# Altium footprint library Balance.PcbLib: 29 footprints (part 1 of 2)
Each footprint in its own frame and in the unit in brackets; x right, y up, seen from the top. Pads: shape width x height; smd on the part's side, far side on the other; paste and mask are expansions set on the pad; w line width, h text height; cw(c..) or ccw(c..) is an arc to the next point about the centre after c.
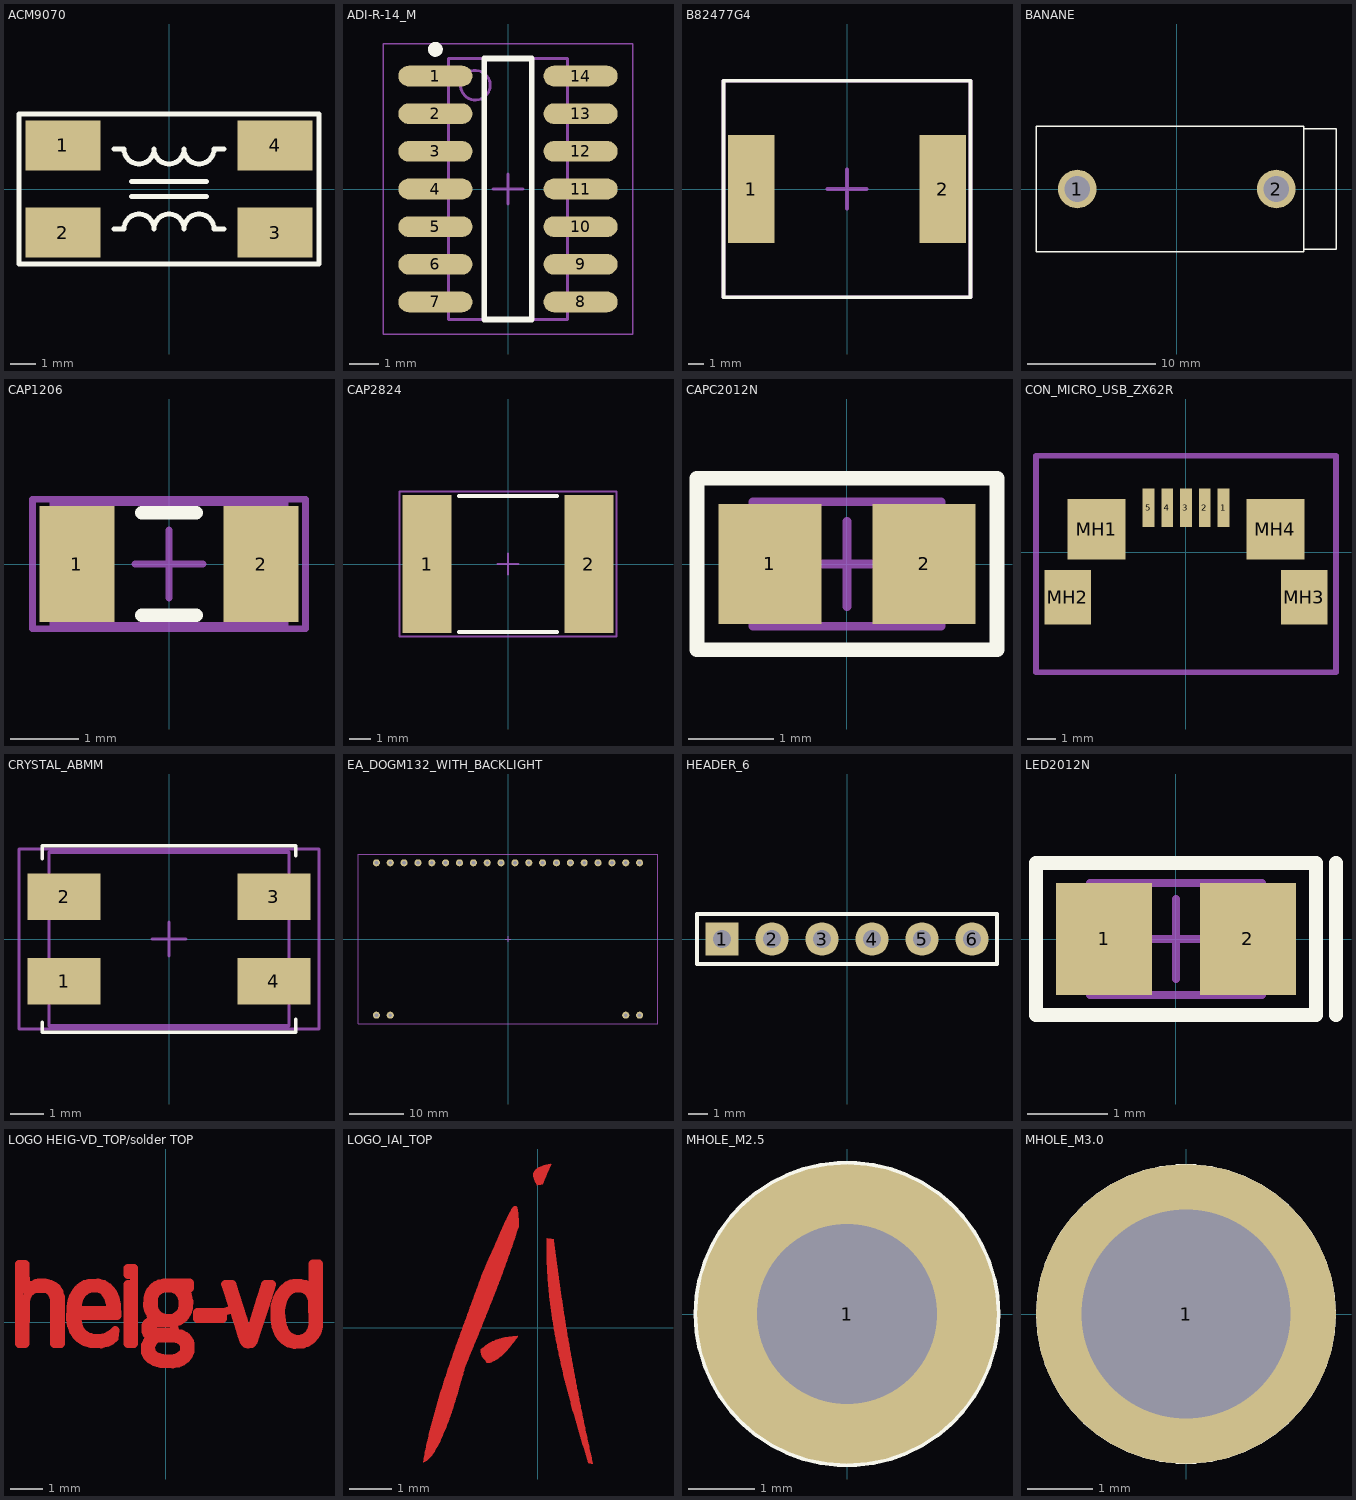
[diagram p0: the footprints below, top view; thin cyan lines are the x and y axes]

## ACM9070 [mm] "Common mode choke"
pads (4):
  rect 3x2 smd: 1(-4.25,1.75) 2(-4.25,-1.75) 3(4.25,-1.75) 4(4.25,1.75)
Top Overlay:
  lines w0.2: -2.2,-1.6 -1.8,-1.6 cw(c-1.2,-1.6) -0.6,-1.6 cw(c0,-1.6) 0.6,-1.6 cw(c1.2,-1.6) 1.8,-1.6 2.2,-1.6 ; -2.2,1.6 -1.8,1.6 ccw(c-1.2,1.6) -0.6,1.6 ccw(c0,1.6) 0.6,1.6 ccw(c1.2,1.6) 1.8,1.6 2.2,1.6 ; -1.5,-0.3 1.5,-0.3 ; -1.5,0.3 1.5,0.3 ; -6,-3 -6,3 6,3 6,-3 -6,-3

## ADI-R-14_M [mm] "SOIC, 14-Leads, Body 8.65x3.9mm, Pitch 1.27mm, IPC Low Density"
height 1.75
pads (14):
  oval 2.5x0.7 smd: 1(-2.45,3.81) 2(-2.45,2.54) 3(-2.45,1.27) 4(-2.45,0) 5(-2.45,-1.27) 6(-2.45,-2.54) 7(-2.45,-3.81) 8(2.45,-3.81) 9(2.45,-2.54) 10(2.45,-1.27) 11(2.45,0) 12(2.45,1.27) 13(2.45,2.54) 14(2.45,3.81)
Top Overlay:
  circle w0.25: c-2.45,4.71 r0.125
  lines w0.2: -0.8,-4.4 0.8,-4.4 0.8,4.4 -0.8,4.4 -0.8,-4.4
Mechanical 13:
  circle w0.1: c-1.1,3.5 r0.5
  lines w0.1: -2,-4.4 2,-4.4 2,4.4 -2,4.4 -2,-4.4
Mechanical 15:
  lines w0.05: -4.2,-4.9 4.2,-4.9 4.2,4.9 -4.2,4.9 -4.2,-4.9
  lines w0.1: -0.5,0 0.5,0 ; 0,-0.5 0,0.5
3D body "User Library-SOIC14_JEDEC_MS-012AB.step": height 1.75, standoff -0.01, extent -3.099,-4.375 3.1,4.375

## B82477G4 [mm]
pads (2):
  rect 3x7 smd: 1(-6.2,0) 2(6.2,0)
Top Overlay:
  lines w0.254: -8,-7 -8,7 8,7 8,-7 -8,-7
Mechanical 1:
  lines w0.254: -8,-7 8,-7 8,7 -8,7 -8,-7
Mechanical 15:
  lines w0.254: -1.25,0 1.25,0 ; 0,-1.25 0,1.25
3D body "User Library-b82477g4.step": height 8, standoff 0, extent -6.4,-6.4 6.4,6.4

## BANANE [mm]
pads (2):
  round 3 hole 2: 1(-7.75,0) 2(7.75,0)
Top Overlay:
  lines w0.1: 9.9,-4.7 12.4,-4.7 12.4,4.7 9.9,4.7 ; -10.97,-4.9 9.9,-4.9 9.9,4.9 -10.97,4.9 -10.97,-4.9
3D body "deltron-571-0510-4mm-90deg-single-socket-3dfile.STEP": height 12.4, standoff -3, extent -10.97,-4.85 12.4,5.5

## CAP1206 [mm] "Chip Capacitor, Body 3.2x1.6mm, IPC High Density"
height 1.3
pads (2):
  rect 1.1x1.7 smd: 1(-1.35,0) 2(1.35,0)
Top Overlay:
  lines w0.2: -0.4,-0.75 0.4,-0.75 ; -0.4,0.75 0.4,0.75
Mechanical 13:
  lines w0.1: -1.7,-0.9 -1.7,0.9 1.7,0.9 1.7,-0.9 -1.7,-0.9
Mechanical 15:
  lines w0.1: -0.5,0 0.5,0 ; 0,-0.5 0,0.5 ; -2,-0.95 -2,0.95 2,0.95 2,-0.95 -2,-0.95
3D body "CAP1206.stp": height 1, standoff 0, extent -1.6,-0.8 1.6,0.8

## CAP2824 [mm] "Chip Capacitor, Body 3.2x1.6mm, IPC High Density"
height 1.3
pads (2):
  rect 2.3x6.5 smd: 1(-3.8,0) 2(3.8,0)
Top Overlay:
  lines w0.2: -2.3,-3.2 2.3,-3.2 ; -2.3,3.2 2.3,3.2
Mechanical 13:
  lines w0.1: -5.1,-3.4 -5.1,3.4 5.1,3.4 5.1,-3.4 -5.1,-3.4
Mechanical 15:
  lines w0.1: -0.5,0 0.5,0 ; 0,-0.5 0,0.5 ; -5.1,-3.4 -5.1,3.4 5.1,3.4 5.1,-3.4 -5.1,-3.4
3D body "LDECE4100KA5N00.step": height 3.09, standoff -0.01, extent -3.65,-3.05 3.65,3.05

## CAPC2012N [mm] "Chip Capacitor, Body 2.0x1.3mm, IPC Medium Density"
height 1.1
pads (2):
  rect 1.2x1.4 smd: 1(-0.9,0) 2(0.9,0)
Top Overlay:
  lines w0.17: -1.75,-1 -1.75,1 1.75,1 1.75,-1 -1.75,-1
Mechanical 13:
  lines w0.1: -1.1,-0.725 1.1,-0.725 1.1,0.725 -1.1,0.725 -1.1,-0.725
Mechanical 15:
  lines w0.1: -0.5,0 0.5,0 ; 0,-0.5 0,0.5 ; -1.75,-1 1.75,-1 1.75,1 -1.75,1 -1.75,-1
3D body "User Library-0805 SMD Capacitor.step": height 0.78, standoff 0, extent -1,-0.625 1,0.625

## CON_MICRO_USB_ZX62R [mm]
pads (9):
  rect 0.4x1.35 smd: 1(1.3,1.55) 2(0.65,1.55) 3(0,1.55) 4(-0.65,1.55) 5(-1.3,1.55)
  rect 2x2.1 smd: MH1(-3.1,0.8) MH4(3.1,0.8)
  rect 1.6x1.9 smd: MH2(-4.1,-1.55) MH3(4.1,-1.55)
Mechanical 15:
  lines w0.2: -5.2,-4.15 -5.2,3.35 5.2,3.35 5.2,-4.15 -5.2,-4.15
3D body "ZX62R-B-5P.stp": height 2.71, standoff -0.23, extent -4.4,-3.981 4.4,1.75

## CRYSTAL_ABMM [mm]
height 1.3
pads (4):
  rect 2.2x1.4 smd: 1(-3.15,-1.27) 2(-3.15,1.27) 3(3.15,1.27) 4(3.15,-1.27)
Top Overlay:
  lines w0.1: -3.8,-2.5 -3.8,-2.8 3.8,-2.8 3.8,-2.4 ; -3.8,2.4 -3.8,2.8 3.8,2.8 3.8,2.5
  text "." at -4.5,-2.7 h1.52
Mechanical 13:
  lines w0.1: -3.6,-2.6 3.6,-2.6 3.6,2.6 -3.6,2.6 -3.6,-2.6
Mechanical 15:
  lines w0.1: -0.5,0 0.5,0 ; 0,-0.5 0,0.5 ; -4.5,-2.7 4.5,-2.7 4.5,2.7 -4.5,2.7 -4.5,-2.7
3D body: height 1.3, standoff 0, extent -3.6,-2.6 3.6,2.6

## EA_DOGM132_WITH_BACKLIGHT [mm]
height 5.6
pads (24):
  round 1.3 hole 0.7: 1(-24.13,-13.97) 2(-21.59,-13.97) 19(21.59,-13.97) 20(24.13,-13.97) 21(24.13,13.97) 22(21.59,13.97) 23(19.05,13.97) 24(16.51,13.97) 25(13.97,13.97) 26(11.43,13.97) 27(8.89,13.97) 28(6.35,13.97) 29(3.81,13.97) 30(1.27,13.97) 31(-1.27,13.97) 32(-3.81,13.97) 33(-6.35,13.97) 34(-8.89,13.97) 35(-11.43,13.97) 36(-13.97,13.97) 37(-16.51,13.97) 38(-19.05,13.97) 39(-21.59,13.97) 40(-24.13,13.97)
Mechanical 15:
  lines w0.1: -0.5,0 0.5,0 ; 0,-0.5 0,0.5
  lines w0.15: -27.5,-15.5 27.5,-15.5 27.5,15.5 -27.5,15.5 -27.5,-15.5
3D body "DOGM.STEP": height 5.4, standoff 0, extent -27.5,-15.5 27.5,15.5

## HEADER_6 [mm] "Connector; Header; 6 Position"
pads (6):
  rect 1.7x1.7 hole 0.9: 1(-6.35,0)
  round 1.7 hole 0.9: 2(-3.81,0) 3(-1.27,0) 4(1.27,0) 5(3.81,0) 6(6.35,0)
Top Overlay:
  lines w0.2: -7.62,-1.27 7.62,-1.27 7.62,1.27 -7.62,1.27 -7.62,-1.27
3D body "User Library-Header_Male_6Pin.STEP": height 8.54, standoff -3, extent -7.62,-1.245 7.62,1.245

## LED2012N [mm] "Chip Resistor, Body 2.0x1.3mm, IPC Medium Density"
height 0.65
pads (2):
  rect 1.2x1.4 smd: 1(-0.9,0) 2(0.9,0)
Top Overlay:
  lines w0.17: 2,-0.95 2,0.95 ; -1.75,-0.95 -1.75,0.95 1.75,0.95 1.75,-0.95 -1.75,-0.95
Mechanical 13:
  lines w0.1: -1.075,-0.7 -1.075,0.7 1.075,0.7 1.075,-0.7 -1.075,-0.7
Mechanical 15:
  lines w0.1: -0.5,0 0.5,0 ; 0,-0.5 0,0.5 ; -1.75,-0.95 1.75,-0.95 1.75,0.95 -1.75,0.95 -1.75,-0.95
3D body "User Library-LED SMD0805.step": height 0.85, standoff 0.01, extent -1.031,-0.456 1.031,0.45

## LOGO HEIG-VD_TOP/solder TOP [mm]
height 0.025
Top Layer:
  lines w0.254: -2.127,1.041 -2.293,1.033 -2.424,0.98 -2.547,0.875 -2.626,0.744 -2.687,0.525 -2.696,0.376 -1.68,0.376 -1.698,0.577 -1.768,0.779 -1.83,0.875 -1.89,0.945 -1.969,0.998 -2.074,1.033 -2.127,1.041 ; -2.127,1.041 -2.065,1.208 ; -2.065,1.208 -1.882,1.155 -1.759,1.077 -1.715,1.041 -1.689,0.998 -1.68,0.998 -1.61,0.901 -1.54,0.744 -1.488,0.516 -1.479,0.201 -2.705,0.201 -2.696,0.008 -2.687,0.008 -2.678,-0.062 -2.67,-0.062 -2.652,-0.141 -2.643,-0.141 -2.617,-0.219 -2.608,-0.219 -2.529,-0.333 -2.521,-0.333 -2.451,-0.395 -2.433,-0.395 -2.407,-0.421 -2.389,-0.421 -2.319,-0.456 -2.284,-0.456 -2.197,-0.482 -1.916,-0.473 -1.777,-0.421 -1.637,-0.333 -1.566,-0.272 -1.54,-0.237 -1.566,-0.491 -1.61,-0.517 -1.68,-0.57 -1.811,-0.631 -1.969,-0.666 -2.284,-0.657 -2.486,-0.596 -2.652,-0.491 -2.722,-0.421 -2.819,-0.272 -2.88,-0.097 -2.915,0.113 -2.906,0.464 -2.871,0.639 -2.81,0.814 -2.722,0.954 -2.661,1.033 -2.626,1.05 -2.6,1.085 -2.477,1.155 -2.337,1.199 -2.065,1.208 ; -0.971,1.164 -0.971,-0.657 -1.164,-0.657 -1.164,1.164 -0.971,1.164 ; -0.971,1.164 -0.971,1.444 ; -0.971,1.444 -0.971,1.654 -1.164,1.654 -1.164,1.453 -0.98,1.453 -0.98,1.444 -0.971,1.444 ; 0.184,-0.482 -0.262,-0.491 -0.349,-0.552 -0.411,-0.622 -0.454,-0.736 -0.446,-0.867 -0.437,-0.867 -0.428,-0.903 -0.42,-0.903 -0.411,-0.937 -0.402,-0.937 -0.358,-0.999 -0.341,-0.999 -0.288,-1.042 -0.271,-1.042 -0.235,-1.069 -0.201,-1.069 -0.148,-1.095 -0.096,-1.095 -0.034,-1.113 0.219,-1.104 0.377,-1.051 0.447,-1.008 0.517,-0.946 0.561,-0.859 0.561,-0.701 0.517,-0.622 0.5,-0.596 0.456,-0.57 0.386,-0.526 0.254,-0.491 0.184,-0.482 ; 0.184,-0.482 0.298,-0.307 ; 0.184,0.131 0.298,-0.307 ; 0.184,0.131 -0.025,0.122 -0.061,0.14 -0.096,0.14 -0.148,0.174 -0.166,0.174 -0.192,0.201 -0.209,0.201 -0.244,0.245 -0.253,0.245 -0.315,0.332 -0.323,0.332 -0.358,0.446 -0.367,0.446 -0.367,0.726 -0.332,0.831 -0.288,0.901 -0.192,0.98 -0.061,1.033 0.123,1.041 0.246,1.015 0.351,0.963 0.456,0.84 0.508,0.709 0.517,0.499 0.5,0.411 0.456,0.315 0.386,0.227 0.351,0.218 0.351,0.201 0.29,0.166 0.184,0.131 ; 0.298,-0.307 -0.078,-0.307 -0.157,-0.298 -0.271,-0.298 -0.349,-0.272 -0.375,-0.272 -0.384,-0.255 -0.402,-0.255 -0.42,-0.228 -0.428,-0.228 -0.437,-0.123 -0.393,-0.079 -0.306,-0.044 0.158,-0.036 0.263,-0.018 0.412,0.034 0.483,0.087 0.526,0.113 0.587,0.183 0.657,0.297 0.701,0.446 0.71,0.639 0.675,0.814 0.613,0.945 0.535,1.033 0.727,1.041 0.727,1.208 -0.061,1.208 -0.209,1.173 -0.271,1.137 -0.306,1.129 -0.332,1.103 -0.367,1.085 -0.472,0.963 -0.525,0.858 -0.56,0.726 -0.568,0.507 -0.525,0.332 -0.454,0.21 -0.323,0.096 -0.367,0.087 -0.507,0.034 -0.568,-0.018 -0.621,-0.097 -0.621,-0.29 -0.577,-0.359 -0.498,-0.412 -0.42,-0.43 -0.472,-0.464 -0.568,-0.57 -0.629,-0.692 -0.629,-0.929 -0.568,-1.051 -0.463,-1.148 -0.358,-1.209 -0.148,-1.27 0.21,-1.279 0.386,-1.244 0.508,-1.191 0.578,-1.139 0.622,-1.113 0.701,-1.008 0.754,-0.867 0.754,-0.657 0.718,-0.552 0.71,-0.552 0.692,-0.509 0.683,-0.509 0.657,-0.464 0.578,-0.403 0.473,-0.351 0.298,-0.307 ; 1.734,0.306 1.734,0.113 0.955,0.113 0.955,0.306 1.734,0.306 ; 1.734,0.306 2.057,0.411 ; 2.057,0.411 2.286,-0.307 2.311,-0.412 2.382,-0.596 2.435,-0.649 2.504,-0.675 2.618,-0.649 2.688,-0.561 2.723,-0.43 3.021,0.481 3.231,1.164 3.03,1.164 2.881,0.691 2.531,-0.438 2.522,-0.421 2.513,-0.421 2.356,0.113 2.347,0.113 2.023,1.164 1.813,1.164 1.822,1.155 2.057,0.411 ; 4.063,1.041 3.897,1.024 3.818,0.989 3.73,0.928 3.652,0.831 3.599,0.744 3.546,0.595 3.512,0.393 3.52,0.069 3.529,0.069 3.546,-0.071 3.555,-0.071 3.581,-0.176 3.59,-0.176 3.617,-0.255 3.625,-0.255 3.643,-0.298 3.652,-0.298 3.704,-0.377 3.713,-0.377 3.748,-0.421 3.765,-0.421 3.791,-0.447 3.809,-0.447 3.818,-0.464 3.844,-0.464 3.888,-0.491 3.923,-0.491 4.054,-0.509 4.177,-0.482 4.264,-0.438 4.361,-0.359 4.378,-0.325 4.439,-0.228 4.475,-0.079 4.466,0.639 4.413,0.823 4.335,0.936 4.299,0.954 4.221,1.006 4.133,1.033 4.063,1.041 ; 4.063,1.041 4.116,1.199 ; 4.116,1.199 3.905,1.199 3.827,1.182 3.678,1.111 3.573,1.024 3.468,0.892 3.371,0.691 3.319,0.49 3.31,0.105 3.345,-0.114 3.398,-0.255 3.424,-0.333 3.485,-0.421 3.503,-0.456 3.529,-0.473 3.546,-0.509 3.564,-0.509 3.599,-0.552 3.739,-0.64 3.923,-0.683 4.185,-0.666 4.308,-0.622 4.404,-0.561 4.448,-0.535 4.544,-0.421 4.615,-0.298 4.667,-0.114 4.667,1.786 4.475,1.786 4.475,0.971 4.448,1.015 4.352,1.103 4.264,1.155 4.116,1.199 ; -4.473,-0.657 -4.281,-0.657 -4.272,0.63 -4.255,0.718 -4.219,0.814 -4.175,0.884 -4.088,0.963 -3.956,1.024 -3.677,1.024 -3.597,0.998 -3.51,0.936 -3.449,0.849 -3.405,0.726 -3.396,-0.649 -3.195,-0.657 -3.204,0.779 -3.247,0.928 -3.326,1.05 -3.344,1.05 -3.344,1.068 -3.361,1.068 -3.414,1.12 -3.501,1.164 -3.677,1.208 -3.887,1.208 -3.965,1.19 -4.105,1.129 -4.132,1.103 -4.167,1.085 -4.263,0.971 -4.281,1.777 -4.473,1.777 -4.473,-0.657
  text "et" at 12.446,-2.54 h0.76
  text "de" at 14.097,-2.54 h0.76
  text "de" at 1.905,-3.81 h0.76
  text "Ecole" at -0.635,-2.54 h0.76
  text "Haute" at -4.6,-2.54 h0.76
  text "Vaud" at 3.683,-3.81 h0.76
  text "Gestion" at 16.002,-2.54 h0.76
  text "Canton" at -2.794,-3.81 h0.76
  text "du" at -4.6,-3.81 h0.76
  text "d'Ingenierie" at 3.556,-2.54 h0.76
Top Solder:
  drawing of 348 lines, arcs and shapes, not listed
  text "et" at 12.446,-2.54 h0.76
  text "de" at 14.097,-2.54 h0.76
  text "de" at 1.905,-3.81 h0.76
  text "Ecole" at -0.635,-2.54 h0.76
  text "Haute" at -4.6,-2.54 h0.76
  text "Vaud" at 3.683,-3.81 h0.76
  text "Gestion" at 16.002,-2.54 h0.76
  text "Canton" at -2.794,-3.81 h0.76
  text "du" at -4.6,-3.81 h0.76
  text "d'Ingenierie" at 3.556,-2.54 h0.76

## LOGO_IAI_TOP [mm]
height 0.025
Top Layer:
  drawing of 4 lines, arcs and shapes, not listed
Top Solder:
  drawing of 4 lines, arcs and shapes, not listed

## MHOLE_M2.5 [mm]
pads (1):
  round 4.5 hole 2.7: 1(0,0)
Top Overlay:
  circle w0.15: c0,0 r2.225

## MHOLE_M3.0 [mm]
pads (1):
  round 4.6 hole 3.2: 1(0,0)
Top Overlay:
  circle w0.15: c0,0 r2.225